# Altium footprint library Connector.PcbLib: 27 footprints (part 2 of 2)
Each footprint in its own frame and in the unit in brackets; x right, y up, seen from the top. Pads: shape width x height; smd on the part's side, far side on the other; paste and mask are expansions set on the pad; w line width, h text height; cw(c..) or ccw(c..) is an arc to the next point about the centre after c.
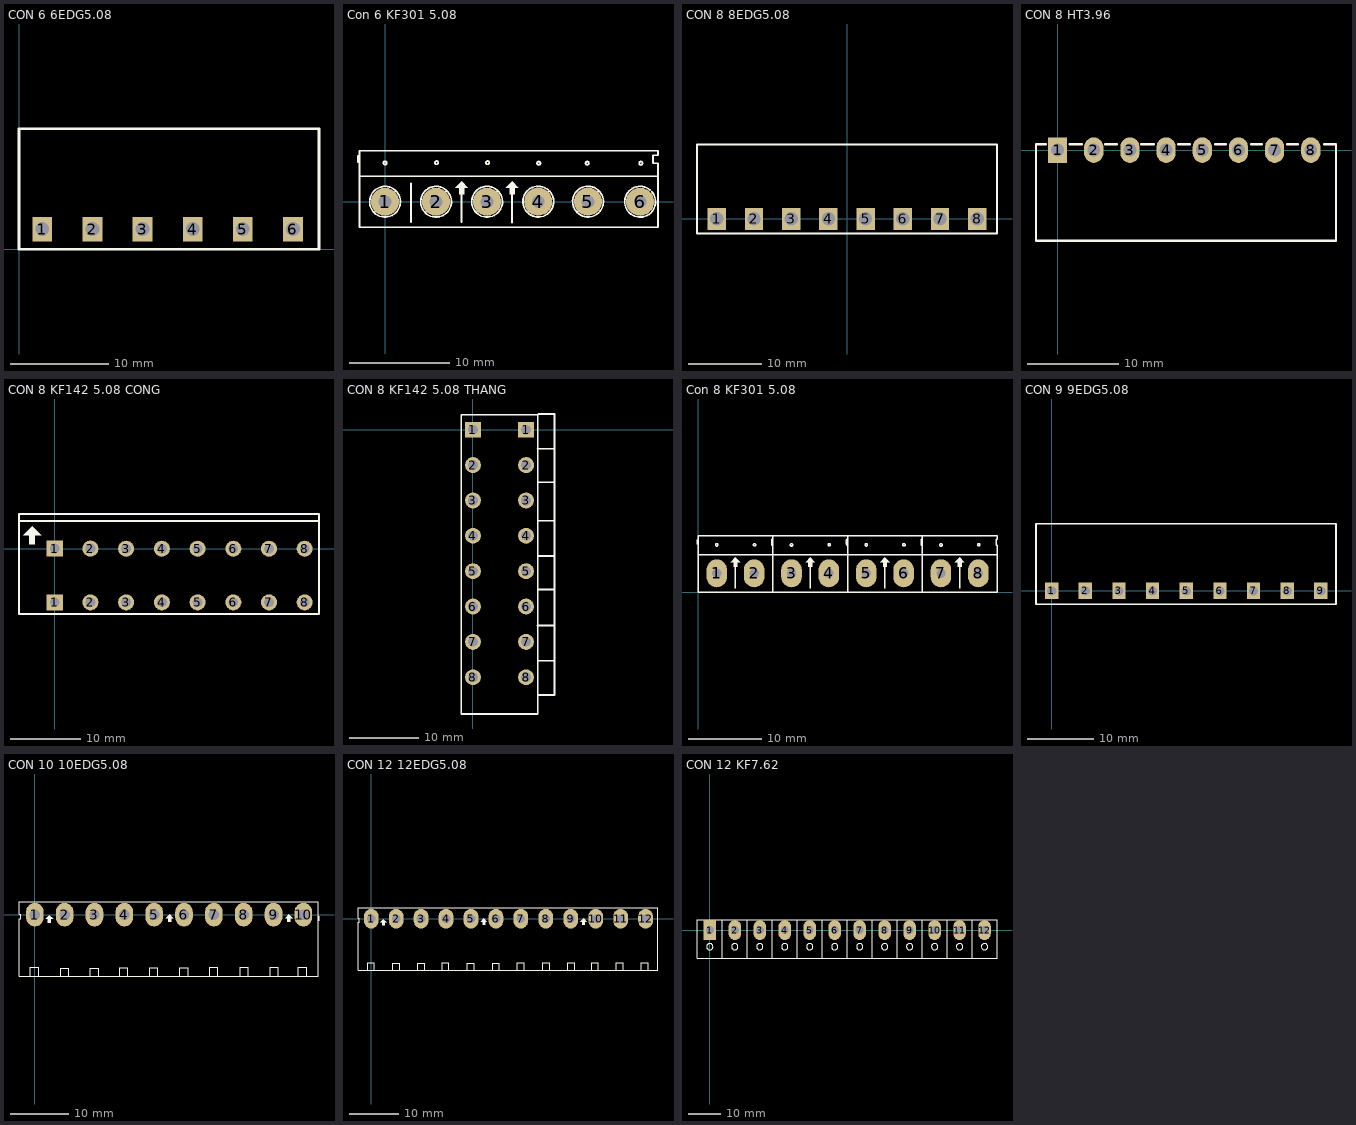
[diagram p1: the footprints below, top view; thin cyan lines are the x and y axes]

## CON 6 6EDG5.08 [mm]
pads (6):
  rect 2x2.5 hole 1.4: 1(2.362,2.057) 2(7.442,2.057) 3(12.522,2.057) 4(17.602,2.057) 5(22.682,2.057) 6(27.762,2.057)
Top Overlay:
  lines w0.254: 16.205,12.217 30.404,12.217 30.404,0.025 30.302,0.025 20.142,0.025 9.982,0.025 0,0.025 0,12.217 20.142,12.217
3D body "User Library-BigHeader 5EHDR_1P.step": height 3.15, standoff -9.32, extent 25.262,0.308 30.262,12.308
3D body "User Library-BigHeader 5EHDR_1P.step": height 3.15, standoff -9.32, extent 20.182,0.308 25.182,12.308
3D body "User Library-BigHeader 5EHDR_1P.step": height 3.15, standoff -9.32, extent 15.102,0.308 20.102,12.308
3D body "User Library-BigHeader 5EHDR_1P.step": height 3.15, standoff -9.32, extent 10.022,0.308 15.022,12.308
3D body "User Library-BigHeader 5EHDR_1P.step": height 3.15, standoff -9.32, extent 4.942,0.308 9.942,12.308
3D body "User Library-BigHeader 5EHDR_1P.step": height 3.15, standoff -9.32, extent -0.138,0.308 4.862,12.308

## Con 6 KF301 5.08 [mil]
pads (6):
  round 110 hole 50: 1(0,0) 2(200,0) 3(400.06,0.06) 4(600.39,0.39) 5(795.39,0.39) 6(1000,0)
Top Overlay:
  circle w7: c602.6,151 r6.4
  circle w7: c402,153 r6.4
  circle w7: c0,152 r6.4
  circle w7: c202,153 r6.4
  circle w7: c792.6,151 r6.4
  circle w7: c1002.6,151 r6.4
  region: 300,80 275,55 290,55 290,30 310,30 310,55 325,55
  region: 498,80 473,55 488,55 488,30 508,30 508,55 523,55
  lines w7: -106,155 -106,180 ; -100,100 1070,100 ; -42,-42 43,43 ; 39.04,46.05 ccw(c0,0) 45.18,40.05 ; 102,-79 102,72 ; 158,-42 242.5,42.5 ; 239.76,45.44 ccw(c200,0) 245.18,40.05 ; 300,-79 300,40 ; 358.5,-41.5 442.5,42.5 ; 439.27,45.97 ccw(c400.06,0.06) 445.19,40.17 ; 497.97,-81.03 497.97,69.97 ; 559,-41 643.5,43.5 ; 640.16,46.18 ccw(c600.59,0.59) 646.12,40.23 ; 754,-41 838.5,43.5 ; 835.16,46.18 ccw(c795.59,0.59) 841.12,40.23 ; 1039.57,45.6 ccw(c1000,0) 1045.53,39.65 ; -100,-100 1070,-100 1070,151 1050,151 1050,182 1070,182 1070,200 -100,200 -100,50 -100,-100
3D body "SW3dPS-KRM2.STEP": height 393.7, standoff -157.48, extent 683.15,-100 1076.85,195.28
3D body "SW3dPS-KRM2.STEP": height 393.7, standoff -157.48, extent 293.15,-100 686.85,195.28
3D body "SW3dPS-KRM2.STEP": height 393.7, standoff -157.48, extent -96.85,-100 296.85,195.28

## CON 8 8EDG5.08 [mm]
pads (8):
  rect 2.5x3 hole 1.8: 1(-17.78,0) 2(-12.7,0) 3(-7.62,0) 4(-2.54,0) 5(2.54,0) 6(7.62,0) 7(12.7,0) 8(17.78,0)
Top Overlay:
  lines w0.254: -3.937,10.16 20.475,10.16 20.475,-2.032 10.16,-2.032 0,-2.032 -10.16,-2.032 -20.475,-2.032 -20.475,10.16 0,10.16
3D body "User Library-BigHeader 5EHDR_1P.step": height 3.15, standoff -9.32, extent 15.28,-1.75 20.28,10.25
3D body "User Library-BigHeader 5EHDR_1P.step": height 3.15, standoff -9.32, extent 10.2,-1.75 15.2,10.25
3D body "User Library-BigHeader 5EHDR_1P.step": height 3.15, standoff -9.32, extent 5.12,-1.75 10.12,10.25
3D body "User Library-BigHeader 5EHDR_1P.step": height 3.15, standoff -9.32, extent 0.04,-1.75 5.04,10.25
3D body "User Library-BigHeader 5EHDR_1P.step": height 3.15, standoff -9.32, extent -5.04,-1.75 -0.04,10.25
3D body "User Library-BigHeader 5EHDR_1P.step": height 3.15, standoff -9.32, extent -10.12,-1.75 -5.12,10.25
3D body "User Library-BigHeader 5EHDR_1P.step": height 3.15, standoff -9.32, extent -15.2,-1.75 -10.2,10.25
3D body "User Library-BigHeader 5EHDR_1P.step": height 3.15, standoff -9.32, extent -20.28,-1.75 -15.28,10.25

## CON 8 HT3.96 [mm]
pads (8):
  rect 2.1x2.794 hole 1.4: 1(0,0)
  oval 2.1x2.794 hole 1.4: 2(3.96,0) 3(7.92,0) 4(11.88,0) 5(15.84,0) 6(19.8,0) 7(23.76,0) 8(27.72,0)
Top Overlay:
  lines w0.254: -1.295,0.635 -2.362,0.635 -2.362,-9.906 30.48,-9.906 30.48,0.381 ; 1.295,0.635 2.667,0.635 ; 5.207,0.635 6.477,0.635 ; 9.144,0.635 10.541,0.635 ; 13.208,0.635 14.478,0.635 ; 17.272,0.635 18.415,0.635 ; 21.209,0.635 22.352,0.635 ; 25.146,0.635 26.289,0.635 ; 29.21,0.635 30.48,0.635 30.48,0.254
3D body "Con 2 KF396.stp": height 7.02, standoff 0.02, extent -1.968,-10.025 6.032,-0.025
3D body "Con 2 KF396.stp": height 7.02, standoff 0.02, extent 6.122,-10.025 14.122,-0.025
3D body "Con 2 KF396.stp": height 7.02, standoff 0.02, extent 14.161,-10.025 22.161,-0.025
3D body "Con 2 KF396.stp": height 7.02, standoff 0.02, extent 22.219,-10.025 30.219,-0.025

## CON 8 KF142 5.08 CONG [mil]
pads (16):
  rect 90x90 hole 55.12: 1(0,-300.39) 1(0,0)
  round 90 hole 55.12: 2(200,-300.39) 2(200,0) 3(400,-300.39) 3(400,-0.39) 4(600,-300.39) 4(600,-0.39) 5(800,-300.39) 5(800,-0.39) 6(1000,-300.39) 6(1000,-0.39) 7(1200,-300.39) 7(1200,-0.39) 8(1400,-300.39) 8(1400,-0.39)
Top Overlay:
  rectangle: -145,24.61 -110,74.61
  region: -175,74.61 -125,124.61 -75,74.61
  lines w10: -200,64.61 -200,154.61 ; -200,65.61 -200,-366.39 1480,-366.39 1480,65.61 ; 1480,64.61 1480,154.61 -200,154.61 ; 1480,159.61 1480,194.61 -200,194.61 -200,154.61
3D body "Terminal Blocks Fixed SPRING 8PIN.stp": height 520.71, standoff -137.64, extent -193.23,-370.94 1480,190.15

## CON 8 KF142 5.08 THANG [mil]
pads (16):
  rect 90x90 hole 55.12: 1(0,0) 1(300.39,0)
  round 90 hole 55.12: 2(0,-200) 2(300.39,-200) 3(0,-400) 3(300,-400) 4(0,-600) 4(300,-600) 5(0,-800) 5(300,-800) 6(0,-1000) 6(300,-1000) 7(0,-1200) 7(300,-1200) 8(0,-1400) 8(300,-1400)
Top Overlay:
  lines w10: 364,-108 460,-108 ; 365,-1107 459,-1107 ; 367,-1500 461,-1500 461,89 369,89 ; 367,-1307 462,-1307 ; 367,-904 458,-904 ; 367,-297 460,-297 ; 368,-714 462,-714 ; 371,-515 459,-515 ; -66,-1608 -66,85 366,85 366,-1608 -66,-1608
3D body "Con 8 KF 142 5.08 Thang.stp": height 559.66, standoff -154.91, extent -61.83,-1609.43 457.83,89

## Con 8 KF301 5.08 [mil]
pads (8):
  oval 110x149.61 hole 50: 1(100,100) 2(300,100) 3(500,100) 4(700,100) 5(900,100) 6(1100,100) 7(1300,100) 8(1500,100)
Top Overlay:
  circle w7: c100,252 r6.4
  circle w7: c302,253 r6.4
  circle w7: c500,252 r6.4
  circle w7: c702,253 r6.4
  circle w7: c900,252 r6.4
  circle w7: c1102,253 r6.4
  circle w7: c1502,253 r6.4
  circle w7: c1300,252 r6.4
  region: 200,185 175,160 190,160 190,135 210,135 210,160 225,160
  region: 600,185 575,160 590,160 590,135 610,135 610,160 625,160
  region: 1000,185 975,160 990,160 990,135 1010,135 1010,160 1025,160
  region: 1400,185 1375,160 1390,160 1390,135 1410,135 1410,160 1425,160
  lines w7: -6,255 -6,280 ; 2,200 399,200 ; 200,21 200,172 ; 394,255 394,280 ; 402,200 799,200 ; 600,21 600,172 ; 794,255 794,280 ; 802,200 1199,200 ; 1000,21 1000,172 ; 1194,255 1194,280 ; 1202,200 1599,200 ; 1400,21 1400,172 ; 400,0 0,0 0,150 0,300 400,300 ; 400,0 400,251 395,251 395,282 400,282 400,300 ; 400,0 800,0 ; 400,0 400,150 400,300 ; 400,300 800,300 ; 800,0 800,251 795,251 795,282 800,282 800,300 ; 800,0 1200,0 ; 800,0 800,150 800,300 ; 800,300 1200,300 ; 1200,0 1200,251 1195,251 1195,282 1200,282 1200,300 ; 1200,0 1200,150 1200,300 ; 1200,0 1600,0 1600,251 1595,251 1595,282 1600,282 1600,300 1200,300
3D body "SW3dPS-KRM2.STEP": height 393.7, standoff -157.48, extent 3.15,2.36 396.85,297.64
3D body "SW3dPS-KRM2.STEP": height 393.7, standoff -157.48, extent 403.15,2.36 796.85,297.64
3D body "SW3dPS-KRM2.STEP": height 393.7, standoff -157.48, extent 803.15,2.36 1196.85,297.64
3D body "SW3dPS-KRM2.STEP": height 393.7, standoff -157.48, extent 1203.15,2.36 1596.85,297.64

## CON 9 9EDG5.08 [mm]
pads (9):
  rect 2x2.5 hole 1.4: 1(0,0) 2(5.08,0) 3(10.16,0) 4(15.24,0) 5(20.32,0) 6(25.4,0) 7(30.48,0) 8(35.56,0) 9(40.64,0)
Top Overlay:
  lines w0.254: 13.843,10.16 42.926,10.16 42.926,-2.032 27.94,-2.032 17.78,-2.032 7.62,-2.032 -2.362,-2.032 -2.362,10.16 17.78,10.16
3D body "User Library-BigHeader 5EHDR_1P.step": height 3.15, standoff -9.32, extent 33.06,-1.75 38.06,10.25
3D body "User Library-BigHeader 5EHDR_1P.step": height 3.15, standoff -9.32, extent 27.98,-1.75 32.98,10.25
3D body "User Library-BigHeader 5EHDR_1P.step": height 3.15, standoff -9.32, extent 22.9,-1.75 27.9,10.25
3D body "User Library-BigHeader 5EHDR_1P.step": height 3.15, standoff -9.32, extent 17.82,-1.75 22.82,10.25
3D body "User Library-BigHeader 5EHDR_1P.step": height 3.15, standoff -9.32, extent 12.74,-1.75 17.74,10.25
3D body "User Library-BigHeader 5EHDR_1P.step": height 3.15, standoff -9.32, extent 7.66,-1.75 12.66,10.25
3D body "User Library-BigHeader 5EHDR_1P.step": height 3.15, standoff -9.32, extent 2.58,-1.75 7.58,10.25
3D body "User Library-BigHeader 5EHDR_1P.step": height 3.15, standoff -9.32, extent -2.5,-1.75 2.5,10.25
3D body "User Library-BigHeader 5EHDR_1P.step": height 3.15, standoff -9.32, extent 38.14,-1.75 43.14,10.25

## CON 10 10EDG5.08 [mm]
pads (10):
  oval 3x4 hole 1.778: 1(0,0) 2(5.08,0) 3(10.16,0) 4(15.24,0) 5(20.32,0) 6(25.4,0) 7(30.48,0) 8(35.56,0) 9(40.645,0) 10(45.73,0)
Top Overlay:
  region: 43.256,0.051 43.891,-0.584 43.51,-0.584 43.51,-1.219 43.002,-1.219 43.002,-0.584 42.621,-0.584
  region: 22.936,0.051 23.571,-0.584 23.19,-0.584 23.19,-1.219 22.682,-1.219 22.682,-0.584 22.301,-0.584
  region: 2.489,-0.076 3.124,-0.711 2.743,-0.711 2.743,-1.346 2.235,-1.346 2.235,-0.711 1.854,-0.711
  lines w0.178: -0.737,-10.389 -0.737,-8.992 0.66,-8.992 0.66,-10.389 ; 4.42,-10.49 4.42,-9.093 5.817,-9.093 5.817,-10.49 ; 9.474,-10.49 9.474,-9.093 10.871,-9.093 10.871,-10.49 ; 14.427,-10.414 14.427,-9.017 15.824,-9.017 15.824,-10.414 ; 19.558,-10.465 19.558,-9.068 20.955,-9.068 20.955,-10.465 ; 24.714,-10.465 24.714,-9.068 26.111,-9.068 26.111,-10.465 ; 29.769,-10.363 29.769,-8.966 31.166,-8.966 31.166,-10.363 ; 34.976,-10.389 34.976,-8.992 36.373,-8.992 36.373,-10.389 ; 40.056,-10.389 40.056,-8.992 41.453,-8.992 41.453,-10.389 ; 44.882,-10.389 44.882,-8.992 46.279,-8.992 46.279,-10.389 ; 48.387,-1.016 48.387,-0.254 ; -2.692,0.051 -2.692,2.21 48.26,2.21 48.26,-10.49 -2.667,-10.49 -2.667,-0.711 -2.388,-0.711 -2.388,0.051 -2.692,0.051
3D body "User Library-BigHeader 5EHDR_1P.step": height 3.24, standoff -9.23, extent 43.18,-10.318 48.18,1.682
3D body "User Library-BigHeader 5EHDR_1P.step": height 3.24, standoff -9.23, extent 38.1,-10.318 43.1,1.682
3D body "User Library-BigHeader 5EHDR_1P.step": height 3.24, standoff -9.23, extent 33.02,-10.318 38.02,1.682
3D body "User Library-BigHeader 5EHDR_1P.step": height 3.24, standoff -9.23, extent 27.94,-10.318 32.94,1.682
3D body "User Library-BigHeader 5EHDR_1P.step": height 3.24, standoff -9.23, extent 22.86,-10.318 27.86,1.682
3D body "User Library-BigHeader 5EHDR_1P.step": height 3.24, standoff -9.23, extent 17.78,-10.318 22.78,1.682
3D body "User Library-BigHeader 5EHDR_1P.step": height 3.24, standoff -9.23, extent 12.7,-10.318 17.7,1.682
3D body "User Library-BigHeader 5EHDR_1P.step": height 3.24, standoff -9.23, extent 7.62,-10.318 12.62,1.682
3D body "User Library-BigHeader 5EHDR_1P.step": height 3.24, standoff -9.23, extent 2.54,-10.318 7.54,1.682
3D body "User Library-BigHeader 5EHDR_1P.step": height 3.24, standoff -9.23, extent -2.54,-10.318 2.46,1.682

## CON 12 12EDG5.08 [mm]
pads (12):
  oval 3x4 hole 1.778: 1(0,0) 2(5.08,0) 3(10.16,0) 4(15.24,0) 5(20.32,0) 6(25.4,0) 7(30.48,0) 8(35.56,0) 9(40.645,0) 10(45.73,0) 11(50.81,0) 12(55.89,0)
Top Overlay:
  region: 2.489,-0.076 3.124,-0.711 2.743,-0.711 2.743,-1.346 2.235,-1.346 2.235,-0.711 1.854,-0.711
  region: 22.936,0.051 23.571,-0.584 23.19,-0.584 23.19,-1.219 22.682,-1.219 22.682,-0.584 22.301,-0.584
  region: 43.256,0.051 43.891,-0.584 43.51,-0.584 43.51,-1.219 43.002,-1.219 43.002,-0.584 42.621,-0.584
  lines w0.178: -0.737,-10.389 -0.737,-8.992 0.66,-8.992 0.66,-10.389 ; 4.42,-10.49 4.42,-9.093 5.817,-9.093 5.817,-10.49 ; 9.474,-10.49 9.474,-9.093 10.871,-9.093 10.871,-10.49 ; 14.427,-10.414 14.427,-9.017 15.824,-9.017 15.824,-10.414 ; 19.558,-10.465 19.558,-9.068 20.955,-9.068 20.955,-10.465 ; 24.714,-10.465 24.714,-9.068 26.111,-9.068 26.111,-10.465 ; 29.769,-10.363 29.769,-8.966 31.166,-8.966 31.166,-10.363 ; 34.976,-10.389 34.976,-8.992 36.373,-8.992 36.373,-10.389 ; 40.056,-10.389 40.056,-8.992 41.453,-8.992 41.453,-10.389 ; 44.882,-10.389 44.882,-8.992 46.279,-8.992 46.279,-10.389 ; 49.962,-10.389 49.962,-8.992 51.359,-8.992 51.359,-10.389 ; 55.042,-10.389 55.042,-8.992 56.439,-8.992 56.439,-10.389 ; 58.42,-1.016 58.42,-0.254 ; -2.692,0.051 -2.388,0.051 -2.388,-0.711 -2.667,-0.711 -2.667,-10.49 58.42,-10.49 58.42,2.21 -2.692,2.21 -2.692,0.051
3D body "User Library-BigHeader 5EHDR_1P.step": height 3.24, standoff -9.23, extent -2.54,-10.318 2.46,1.682
3D body "User Library-BigHeader 5EHDR_1P.step": height 3.24, standoff -9.23, extent 2.54,-10.318 7.54,1.682
3D body "User Library-BigHeader 5EHDR_1P.step": height 3.24, standoff -9.23, extent 7.62,-10.318 12.62,1.682
3D body "User Library-BigHeader 5EHDR_1P.step": height 3.24, standoff -9.23, extent 12.7,-10.318 17.7,1.682
3D body "User Library-BigHeader 5EHDR_1P.step": height 3.24, standoff -9.23, extent 17.78,-10.318 22.78,1.682
3D body "User Library-BigHeader 5EHDR_1P.step": height 3.24, standoff -9.23, extent 22.86,-10.318 27.86,1.682
3D body "User Library-BigHeader 5EHDR_1P.step": height 3.24, standoff -9.23, extent 27.94,-10.318 32.94,1.682
3D body "User Library-BigHeader 5EHDR_1P.step": height 3.24, standoff -9.23, extent 33.02,-10.318 38.02,1.682
3D body "User Library-BigHeader 5EHDR_1P.step": height 3.24, standoff -9.23, extent 38.1,-10.318 43.1,1.682
3D body "User Library-BigHeader 5EHDR_1P.step": height 3.24, standoff -9.23, extent 43.18,-10.318 48.18,1.682
3D body "User Library-BigHeader 5EHDR_1P.step": height 3.24, standoff -9.23, extent 48.26,-10.293 53.26,1.707
3D body "User Library-BigHeader 5EHDR_1P.step": height 3.24, standoff -9.23, extent 53.34,-10.293 58.34,1.707

## CON 12 KF7.62 [mil]
pads (12):
  rect 150x240 hole 95: 1(0,0)
  oval 150x240 hole 95: 2(300,0) 3(600,0) 4(900,0) 5(1200,0) 6(1500,0) 7(1800,0) 8(2100,0) 9(2400,0) 10(2700,0) 11(3000,0) 12(3300,0)
Top Overlay:
  circle w8: c0,-200 r38.08
  circle w8: c300,-200 r38.08
  circle w8: c3300,-200 r38.08
  circle w8: c3000,-200 r38.08
  circle w8: c2700,-200 r38.08
  circle w8: c2400,-200 r38.08
  circle w8: c2100,-200 r38.08
  circle w8: c1800,-200 r38.08
  circle w8: c1500,-200 r38.08
  circle w8: c1200,-200 r38.08
  circle w8: c900,-200 r38.08
  circle w8: c600,-200 r38.08
  lines w7.87: 150,-340.06 150,125 ; 450,-340.06 450,125 ; 454.7,125 -154.54,125 -154.54,-339.27 -154.54,-339.67 3450,-339.67 3450,125 455.12,125 ; 750,-340.06 750,125 ; 1050,-340.06 1050,125 ; 1350,-340.06 1350,125 ; 1650,-340.06 1650,125 ; 1950,-340.06 1950,125 ; 2250,-340.06 2250,125 ; 2550,-340.06 2550,125 ; 2850,-340.06 2850,125 ; 3150,-340.06 3150,125
3D body "Con 2 KF7.62.step": height 492.61, standoff -245.58, extent -150,-370 450,122.12
3D body "Con 2 KF7.62.step": height 492.61, standoff -245.58, extent 450,-370 1050,122.12
3D body "Con 2 KF7.62.step": height 492.61, standoff -245.58, extent 2850,-370 3450,122.12
3D body "Con 2 KF7.62.step": height 492.61, standoff -245.58, extent 2250,-370 2850,122.12
3D body "Con 2 KF7.62.step": height 492.61, standoff -245.58, extent 1650,-370 2250,122.12
3D body "Con 2 KF7.62.step": height 492.61, standoff -245.58, extent 1050,-370 1650,122.12